# Altium footprint library Indicators.PcbLib: 2 footprints
Each footprint in its own frame and in the unit in brackets; x right, y up, seen from the top. Pads: shape width x height; smd on the part's side, far side on the other; paste and mask are expansions set on the pad; w line width, h text height; cw(c..) or ccw(c..) is an arc to the next point about the centre after c.
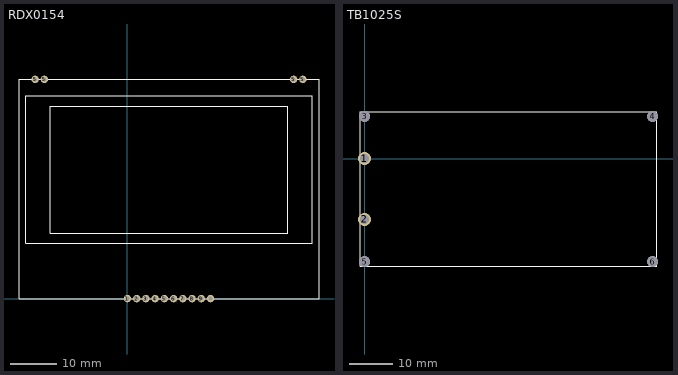
[diagram p0: the footprints below, top view; thin cyan lines are the x and y axes]

## RDX0154 [mm]
pads (14):
  round 1.6 hole 0.9: 1(0,0) 2(2,0) 3(4,0) 4(6,0) 5(-20,47.5) 5(-18,47.5) 5(8,0) 5(36,47.5) 5(38,47.5) 6(10,0) 7(12,0) 8(14,0) 9(16,0) 10(18,0)
Top Overlay:
  lines w0.254: -23.5,0 -23.5,47.5 41.5,47.5 41.5,0 -23.5,0 ; -22,12 -22,44 40,44 40,12 -22,12 ; -16.75,14.2 -16.75,41.7 34.75,41.7 34.75,14.2 -16.75,14.2
3D body "RDX0154.stp": height 7.43, standoff 0, extent -23.975,-0.075 42.025,48.025

## TB1025S [mm]
pads (6):
  round 3 hole 2: 1(0,0) 2(0,-14)
  round 2.5 hole 2.5: 3(0,9.7) 4(66.2,9.7) 5(0,-23.7) 6(66.2,-23.7)
Top Overlay:
  lines w0.254: -1,-24.7 -1,10.7 67.2,10.7 67.2,-24.7 -1,-24.7
3D body "TB1025S.stp": height 2.6, standoff -8, extent -1.1,-24.7 67.1,10.7